# EAGLE library part STM6780TWB6F (library LunchBox48_ASIC_board)
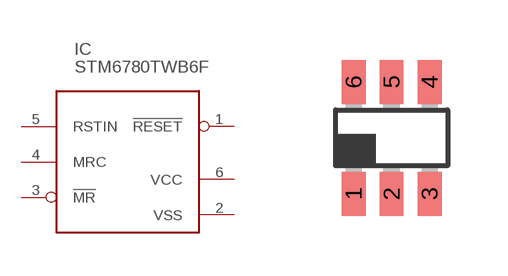
[diagram p7: symbol with the pads of SOT23-6; footprint SOT23-6]

Designator prefix IC

## STM6780TWB6F  [SOT23-6]
1  !RESET!  out
2  VSS  pwr
3  !MR!  in
4  MRC  in
5  RSTIN  in
6  VCC  pwr

## Footprint SOT23-6 (pad centres in mm)
smd 0.6 x 1.1: 1 -0.95,-1.4; 2 0,-1.4; 3 0.95,-1.4; 4 0.95,1.4; 5 0,1.4; 6 -0.95,1.4